# EAGLE library part AT42QT1010 (library SophiEaglev9)
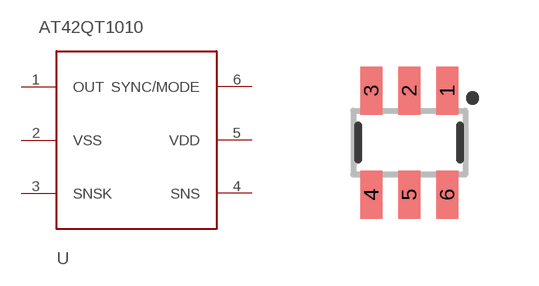
[diagram p16: symbol with the pads of SOT23-6; footprint SOT23-6]

Designator prefix -

## AT42QT1010  [SOT23-6]
1  OUT
2  VSS
3  SNSK
4  SNS
5  VDD
6  SYNC/MODE

## Footprint SOT23-6 (pad centres in mm)
smd 0.55 x 1.2: 1 3.49,3.84; 2 2.54,3.84; 3 1.59,3.84; 4 1.59,1.24; 5 2.54,1.24; 6 3.49,1.24